# EAGLE library part EPF10K30B-FBGA256 (library altera_pga84)
EPF10K30B FLEX 10K family
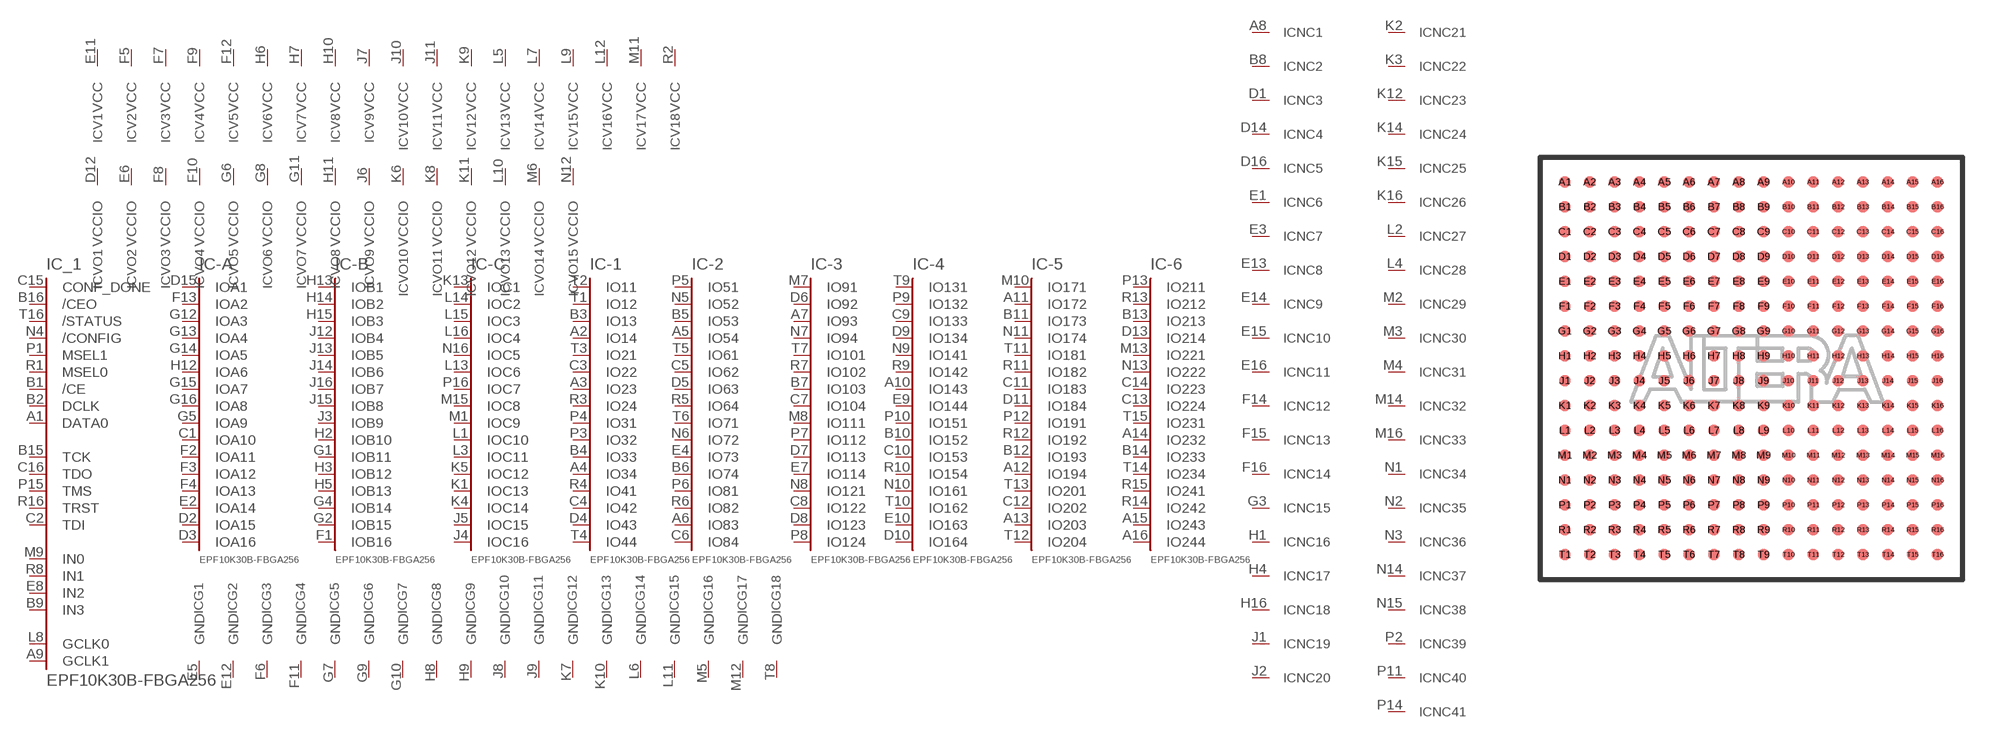
[diagram p25: symbol with the pads of FBGA256; footprint FBGA256]

Designator prefix IC; gates _1=K10-CTRL -A=A16 -B=B16 -C=C16 -1=IO-44 -2=IO-84 -3=IO-124 -4=IO-164 -5=IO-204 -6=IO-244 G1=GND G2=GND G3=GND G4=GND G5=GND G6=GND G7=GND G8=GND G9=GND G10=GND G11=GND G12=GND G13=GND G14=GND G15=GND G16=GND G17=GND G18=GND NC1=NC NC2=NC NC3=NC NC4=NC NC5=NC NC6=NC NC7=NC NC8=NC NC9=NC NC10=NC NC11=NC NC12=NC NC13=NC NC14=NC NC15=NC NC16=NC NC17=NC NC18=NC NC19=NC NC20=NC NC21=NC NC22=NC NC23=NC NC24=NC NC25=NC NC26=NC NC27=NC NC28=NC NC29=NC NC30=NC NC31=NC NC32=NC NC33=NC NC34=NC NC35=NC NC36=NC NC37=NC NC38=NC NC39=NC NC40=NC NC41=NC V1=VCCINT V2=VCCINT V3=VCCINT V4=VCCINT V5=VCCINT V6=VCCINT V7=VCCINT V8=VCCINT V9=VCCINT V10=VCCINT V11=VCCINT V12=VCCINT V13=VCCINT V14=VCCINT V15=VCCINT V16=VCCINT V17=VCCINT V18=VCCINT VO1=VCCIO VO2=VCCIO VO3=VCCIO VO4=VCCIO VO5=VCCIO VO6=VCCIO VO7=VCCIO VO8=VCCIO VO9=VCCIO VO10=VCCIO VO11=VCCIO VO12=VCCIO VO13=VCCIO VO14=VCCIO VO15=VCCIO

## EPF10K30B-FBGA256 (OC_FARNELL: unknown; OC_NEWARK: unknown)  [FBGA256]
A1  _1:DATA0  in
A2  -1:IO14
A3  -1:IO23
A4  -1:IO34
A5  -2:IO54
A6  -2:IO83
A7  -3:IO93
A8  NC1:NC  nc
A9  _1:GCLK1  in
A10  -4:IO143
A11  -5:IO172
A12  -5:IO194
A13  -5:IO203
A14  -6:IO232
A15  -6:IO243
A16  -6:IO244
B1  _1:/CE  in
B2  _1:DCLK  in
B3  -1:IO13
B4  -1:IO33
B5  -2:IO53
B6  -2:IO74
B7  -3:IO103
B8  NC2:NC  nc
B9  _1:IN3  in
B10  -4:IO152
B11  -5:IO173
B12  -5:IO193
B13  -6:IO213
B14  -6:IO233
B15  _1:TCK
B16  _1:/CEO  in
C1  -A:IOA10
C2  _1:TDI
C3  -1:IO22
C4  -1:IO42
C5  -2:IO62
C6  -2:IO84
C7  -3:IO104
C8  -3:IO122
C9  -4:IO133
C10  -4:IO153
C11  -5:IO183
C12  -5:IO202
C13  -6:IO224
C14  -6:IO223
C15  _1:CONF_DONE  in
C16  _1:TDO
D1  NC3:NC  nc
D2  -A:IOA15
D3  -A:IOA16
D4  -1:IO43
D5  -2:IO63
D6  -3:IO92
D7  -3:IO113
D8  -3:IO123
D9  -4:IO134
D10  -4:IO164
D11  -5:IO184
D12  VO1:VCCIO  pwr
D13  -6:IO214
D14  NC4:NC  nc
D15  -A:IOA1
D16  NC5:NC  nc
E1  NC6:NC  nc
E2  -A:IOA14
E3  NC7:NC  nc
E4  -2:IO73
E5  G1:GND  pwr
E6  VO2:VCCIO  pwr
E7  -3:IO114
E8  _1:IN2  in
E9  -4:IO144
E10  -4:IO163
E11  V1:VCC  pwr
E12  G2:GND  pwr
E13  NC8:NC  nc
E14  NC9:NC  nc
E15  NC10:NC  nc
E16  NC11:NC  nc
F1  -B:IOB16
F2  -A:IOA11
F3  -A:IOA12
F4  -A:IOA13
F5  V2:VCC  pwr
F6  G3:GND  pwr
F7  V3:VCC  pwr
F8  VO3:VCCIO  pwr
F9  V4:VCC  pwr
F10  VO4:VCCIO  pwr
F11  G4:GND  pwr
F12  V5:VCC  pwr
F13  -A:IOA2
F14  NC12:NC  nc
F15  NC13:NC  nc
F16  NC14:NC  nc
G1  -B:IOB11
G2  -B:IOB15
G3  NC15:NC  nc
G4  -B:IOB14
G5  -A:IOA9
G6  VO5:VCCIO  pwr
G7  G5:GND  pwr
G8  VO6:VCCIO  pwr
G9  G6:GND  pwr
G10  G7:GND  pwr
G11  VO7:VCCIO  pwr
G12  -A:IOA3
G13  -A:IOA4
G14  -A:IOA5
G15  -A:IOA7
G16  -A:IOA8
H1  NC16:NC  nc
H2  -B:IOB10
H3  -B:IOB12
H4  NC17:NC  nc
H5  -B:IOB13
H6  V6:VCC  pwr
H7  V7:VCC  pwr
H8  G8:GND  pwr
H9  G9:GND  pwr
H10  V8:VCC  pwr
H11  VO8:VCCIO  pwr
H12  -A:IOA6
H13  -B:IOB1
H14  -B:IOB2
H15  -B:IOB3
H16  NC18:NC  nc
J1  NC19:NC  nc
J2  NC20:NC  nc
J3  -B:IOB9
J4  -C:IOC16
J5  -C:IOC15
J6  VO9:VCCIO  pwr
J7  V9:VCC  pwr
J8  G10:GND  pwr
J9  G11:GND  pwr
J10  V10:VCC  pwr
J11  V11:VCC  pwr
J12  -B:IOB4
J13  -B:IOB5
J14  -B:IOB6
J15  -B:IOB8
J16  -B:IOB7
K1  -C:IOC13
K2  NC21:NC  nc
K3  NC22:NC  nc
K4  -C:IOC14
K5  -C:IOC12
K6  VO10:VCCIO  pwr
K7  G12:GND  pwr
K8  VO11:VCCIO  pwr
K9  V12:VCC  pwr
K10  G13:GND  pwr
K11  VO12:VCCIO  pwr
K12  NC23:NC  nc
K13  -C:IOC1
K14  NC24:NC  nc
K15  NC25:NC  nc
K16  NC26:NC  nc
L1  -C:IOC10
L2  NC27:NC  nc
L3  -C:IOC11
L4  NC28:NC  nc
L5  V13:VCC  pwr
L6  G14:GND  pwr
L7  V14:VCC  pwr
L8  _1:GCLK0  in
L9  V15:VCC  pwr
L10  VO13:VCCIO  pwr
L11  G15:GND  pwr
L12  V16:VCC  pwr
L13  -C:IOC6
L14  -C:IOC2
L15  -C:IOC3
L16  -C:IOC4
M1  -C:IOC9
M2  NC29:NC  nc
M3  NC30:NC  nc
M4  NC31:NC  nc
M5  G16:GND  pwr
M6  VO14:VCCIO  pwr
M7  -3:IO91
M8  -3:IO111
M9  _1:IN0  in
M10  -5:IO171
M11  V17:VCC  pwr
M12  G17:GND  pwr
M13  -6:IO221
M14  NC32:NC  nc
M15  -C:IOC8
M16  NC33:NC  nc
N1  NC34:NC  nc
N2  NC35:NC  nc
N3  NC36:NC  nc
N4  _1:/CONFIG  in
N5  -2:IO52
N6  -2:IO72
N7  -3:IO94
N8  -3:IO121
N9  -4:IO141
N10  -4:IO161
N11  -5:IO174
N12  VO15:VCCIO  pwr
N13  -6:IO222
N14  NC37:NC  nc
N15  NC38:NC  nc
N16  -C:IOC5
P1  _1:MSEL1  in
P2  NC39:NC  nc
P3  -1:IO32
P4  -1:IO31
P5  -2:IO51
P6  -2:IO81
P7  -3:IO112
P8  -3:IO124
P9  -4:IO132
P10  -4:IO151
P11  NC40:NC  nc
P12  -5:IO191
P13  -6:IO211
P14  NC41:NC  nc
P15  _1:TMS
P16  -C:IOC7
R1  _1:MSEL0  in
R2  V18:VCC  pwr
R3  -1:IO24
R4  -1:IO41
R5  -2:IO64
R6  -2:IO82
R7  -3:IO102
R8  _1:IN1  in
R9  -4:IO142
R10  -4:IO154
R11  -5:IO182
R12  -5:IO192
R13  -6:IO212
R14  -6:IO242
R15  -6:IO241
R16  _1:TRST
T1  -1:IO12
T2  -1:IO11
T3  -1:IO21
T4  -1:IO44
T5  -2:IO61
T6  -2:IO71
T7  -3:IO101
T8  G18:GND  pwr
T9  -4:IO131
T10  -4:IO162
T11  -5:IO181
T12  -5:IO204
T13  -5:IO201
T14  -6:IO234
T15  -6:IO231
T16  _1:/STATUS  in

## Footprint FBGA256 (pad centres in mm)
Fine Ball Grid Array
smd 0.45 x 0.45: A1 -7.5,7.5; A2 -6.5,7.5; A3 -5.5,7.5; A4 -4.5,7.5; A5 -3.5,7.5; A6 -2.5,7.5; A7 -1.5,7.5; A8 -0.5,7.5; A9 0.5,7.5; A10 1.5,7.5; A11 2.5,7.5; A12 3.5,7.5; A13 4.5,7.5; A14 5.5,7.5; A15 6.5,7.5; A16 7.5,7.5; B1 -7.5,6.5; B2 -6.5,6.5; B3 -5.5,6.5; B4 -4.5,6.5; B5 -3.5,6.5; B6 -2.5,6.5; B7 -1.5,6.5; B8 -0.5,6.5; B9 0.5,6.5; B10 1.5,6.5; B11 2.5,6.5; B12 3.5,6.5; B13 4.5,6.5; B14 5.5,6.5; B15 6.5,6.5; B16 7.5,6.5; C1 -7.5,5.5; C2 -6.5,5.5; C3 -5.5,5.5; C4 -4.5,5.5; C5 -3.5,5.5; C6 -2.5,5.5; C7 -1.5,5.5; C8 -0.5,5.5; C9 0.5,5.5; C10 1.5,5.5; C11 2.5,5.5; C12 3.5,5.5; C13 4.5,5.5; C14 5.5,5.5; C15 6.5,5.5; C16 7.5,5.5; D1 -7.5,4.5; D2 -6.5,4.5; D3 -5.5,4.5; D4 -4.5,4.5; D5 -3.5,4.5; D6 -2.5,4.5; D7 -1.5,4.5; D8 -0.5,4.5; D9 0.5,4.5; D10 1.5,4.5; D11 2.5,4.5; D12 3.5,4.5; D13 4.5,4.5; D14 5.5,4.5; D15 6.5,4.5; D16 7.5,4.5; E1 -7.5,3.5; E2 -6.5,3.5; E3 -5.5,3.5; E4 -4.5,3.5; E5 -3.5,3.5; E6 -2.5,3.5; E7 -1.5,3.5; E8 -0.5,3.5; E9 0.5,3.5; E10 1.5,3.5; E11 2.5,3.5; E12 3.5,3.5; E13 4.5,3.5; E14 5.5,3.5; E15 6.5,3.5; E16 7.5,3.5; F1 -7.5,2.5; F2 -6.5,2.5; F3 -5.5,2.5; F4 -4.5,2.5; F5 -3.5,2.5; F6 -2.5,2.5; F7 -1.5,2.5; F8 -0.5,2.5; F9 0.5,2.5; F10 1.5,2.5; F11 2.5,2.5; F12 3.5,2.5; F13 4.5,2.5; F14 5.5,2.5; F15 6.5,2.5; F16 7.5,2.5; G1 -7.5,1.5; G2 -6.5,1.5; G3 -5.5,1.5; G4 -4.5,1.5; G5 -3.5,1.5; G6 -2.5,1.5; G7 -1.5,1.5; G8 -0.5,1.5; G9 0.5,1.5; G10 1.5,1.5; G11 2.5,1.5; G12 3.5,1.5; G13 4.5,1.5; G14 5.5,1.5; G15 6.5,1.5; G16 7.5,1.5; H1 -7.5,0.5; H2 -6.5,0.5; H3 -5.5,0.5; H4 -4.5,0.5; H5 -3.5,0.5; H6 -2.5,0.5; H7 -1.5,0.5; H8 -0.5,0.5; H9 0.5,0.5; H10 1.5,0.5; H11 2.5,0.5; H12 3.5,0.5; H13 4.5,0.5; H14 5.5,0.5; H15 6.5,0.5; H16 7.5,0.5; J1 -7.5,-0.5; J2 -6.5,-0.5; J3 -5.5,-0.5; J4 -4.5,-0.5; J5 -3.5,-0.5; J6 -2.5,-0.5; J7 -1.5,-0.5; J8 -0.5,-0.5; J9 0.5,-0.5; J10 1.5,-0.5; J11 2.5,-0.5; J12 3.5,-0.5; J13 4.5,-0.5; J14 5.5,-0.5; J15 6.5,-0.5; J16 7.5,-0.5; K1 -7.5,-1.5; K2 -6.5,-1.5; K3 -5.5,-1.5; K4 -4.5,-1.5; K5 -3.5,-1.5; K6 -2.5,-1.5; K7 -1.5,-1.5; K8 -0.5,-1.5; K9 0.5,-1.5; K10 1.5,-1.5; K11 2.5,-1.5; K12 3.5,-1.5; K13 4.5,-1.5; K14 5.5,-1.5; K15 6.5,-1.5; K16 7.5,-1.5; L1 -7.5,-2.5; L2 -6.5,-2.5; L3 -5.5,-2.5; L4 -4.5,-2.5; L5 -3.5,-2.5; L6 -2.5,-2.5; L7 -1.5,-2.5; L8 -0.5,-2.5; L9 0.5,-2.5; L10 1.5,-2.5; L11 2.5,-2.5; L12 3.5,-2.5; L13 4.5,-2.5; L14 5.5,-2.5; L15 6.5,-2.5; L16 7.5,-2.5; M1 -7.5,-3.5; M2 -6.5,-3.5; M3 -5.5,-3.5; M4 -4.5,-3.5; M5 -3.5,-3.5; M6 -2.5,-3.5; M7 -1.5,-3.5; M8 -0.5,-3.5; M9 0.5,-3.5; M10 1.5,-3.5; M11 2.5,-3.5; M12 3.5,-3.5; M13 4.5,-3.5; M14 5.5,-3.5; M15 6.5,-3.5; M16 7.5,-3.5; N1 -7.5,-4.5; N2 -6.5,-4.5; N3 -5.5,-4.5; N4 -4.5,-4.5; N5 -3.5,-4.5; N6 -2.5,-4.5; N7 -1.5,-4.5; N8 -0.5,-4.5; N9 0.5,-4.5; N10 1.5,-4.5; N11 2.5,-4.5; N12 3.5,-4.5; N13 4.5,-4.5; N14 5.5,-4.5; N15 6.5,-4.5; N16 7.5,-4.5; P1 -7.5,-5.5; P2 -6.5,-5.5; P3 -5.5,-5.5; P4 -4.5,-5.5; P5 -3.5,-5.5; P6 -2.5,-5.5; P7 -1.5,-5.5; P8 -0.5,-5.5; P9 0.5,-5.5; P10 1.5,-5.5; P11 2.5,-5.5; P12 3.5,-5.5; P13 4.5,-5.5; P14 5.5,-5.5; P15 6.5,-5.5; P16 7.5,-5.5; R1 -7.5,-6.5; R2 -6.5,-6.5; R3 -5.5,-6.5; R4 -4.5,-6.5; R5 -3.5,-6.5; R6 -2.5,-6.5; R7 -1.5,-6.5; R8 -0.5,-6.5; R9 0.5,-6.5; R10 1.5,-6.5; R11 2.5,-6.5; R12 3.5,-6.5; R13 4.5,-6.5; R14 5.5,-6.5; R15 6.5,-6.5; R16 7.5,-6.5; T1 -7.5,-7.5; T2 -6.5,-7.5; T3 -5.5,-7.5; T4 -4.5,-7.5; T5 -3.5,-7.5; T6 -2.5,-7.5; T7 -1.5,-7.5; T8 -0.5,-7.5; T9 0.5,-7.5; T10 1.5,-7.5; T11 2.5,-7.5; T12 3.5,-7.5; T13 4.5,-7.5; T14 5.5,-7.5; T15 6.5,-7.5; T16 7.5,-7.5